# Altium footprint library LED.PcbLib: 19 footprints (part 1 of 2)
Each footprint in its own frame and in the unit in brackets; x right, y up, seen from the top. Pads: shape width x height; smd on the part's side, far side on the other; paste and mask are expansions set on the pad; w line width, h text height; cw(c..) or ccw(c..) is an arc to the next point about the centre after c.
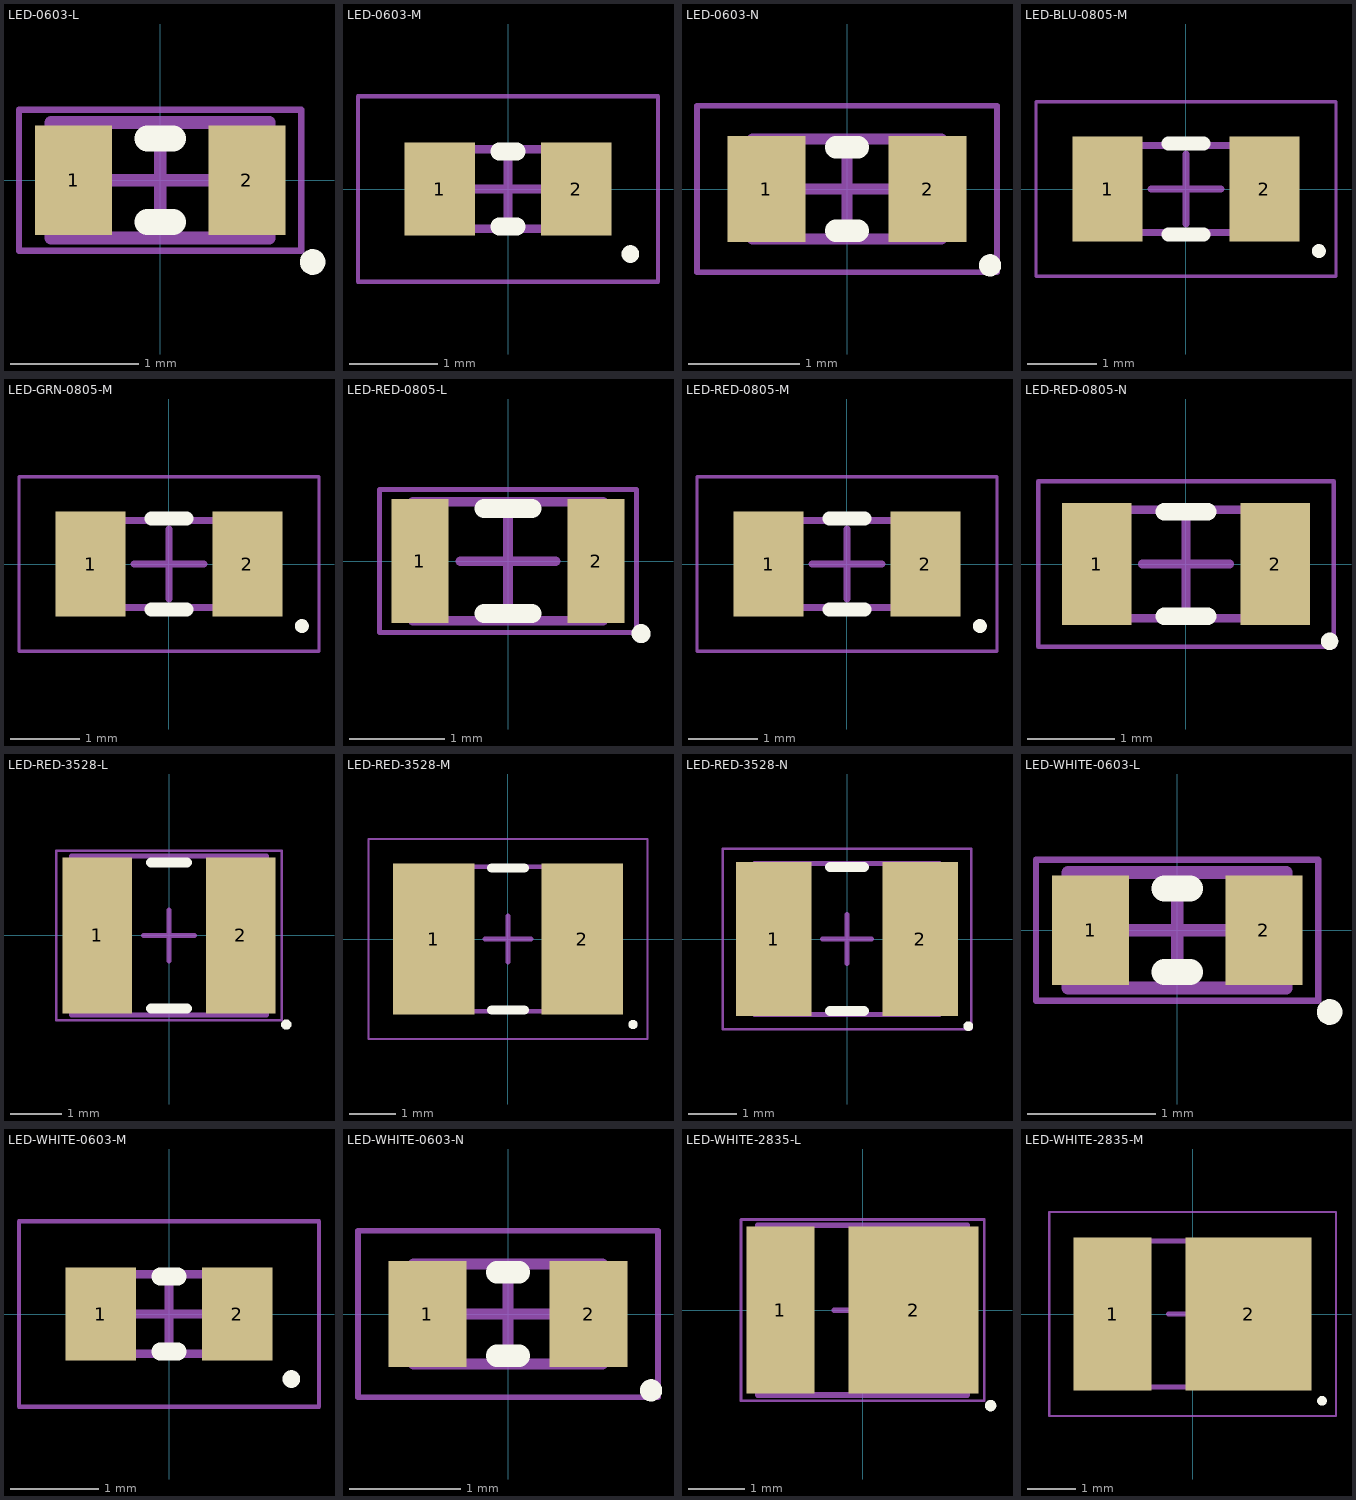
[diagram p0: the footprints below, top view; thin cyan lines are the x and y axes]

## LED-0603-L [mm] "Chip Diode, 2-Leads, Body 1,60x0,80mm, IPC High Density"
height 1
pads (2):
  rect 0.6x0.85 smd: 1(-0.675,0) 2(0.675,0)
Top Overlay:
  circle w0.1: c1.187,-0.637 r0.05
  lines w0.2: -0.1,-0.325 0.1,-0.325 ; -0.1,0.325 0.1,0.325
Mechanical 13:
  lines w0.1: -0.85,-0.45 -0.85,0.45 0.85,0.45 0.85,-0.45 -0.85,-0.45
Mechanical 15:
  lines w0.05: -1.1,-0.55 -1.1,0.55 1.1,0.55 1.1,-0.55 -1.1,-0.55
  lines w0.1: -0.45,0 0.45,0 ; 0,-0.45 0,0.45
3D body "User Library-LED SMD0603.step": height 0.68, standoff 0, extent -0.843,-0.368 0.807,0.357

## LED-0603-M [mm] "Chip Diode, 2-Leads, Body 1,60x0,80mm, IPC Low Density"
height 1
pads (2):
  rect 0.8x1.05 smd: 1(-0.775,0) 2(0.775,0)
Top Overlay:
  circle w0.1: c1.387,-0.737 r0.05
  lines w0.2: -0.1,-0.425 0.1,-0.425 ; -0.1,0.425 0.1,0.425
Mechanical 13:
  lines w0.1: -0.85,-0.45 -0.85,0.45 0.85,0.45 0.85,-0.45 -0.85,-0.45
Mechanical 15:
  lines w0.05: -1.7,-1.05 -1.7,1.05 1.7,1.05 1.7,-1.05 -1.7,-1.05
  lines w0.1: -0.45,0 0.45,0 ; 0,-0.45 0,0.45
3D body "User Library-LED SMD0603.step": height 0.68, standoff 0, extent -0.843,-0.368 0.807,0.357

## LED-0603-N [mm] "Chip Diode, 2-Leads, Body 1,60x0,80mm, IPC Medium Density"
height 1
pads (2):
  rect 0.7x0.95 smd: 1(-0.725,0) 2(0.725,0)
Top Overlay:
  circle w0.1: c1.287,-0.687 r0.05
  lines w0.2: -0.1,-0.375 0.1,-0.375 ; -0.1,0.375 0.1,0.375
Mechanical 13:
  lines w0.1: -0.85,-0.45 -0.85,0.45 0.85,0.45 0.85,-0.45 -0.85,-0.45
Mechanical 15:
  lines w0.05: -1.35,-0.75 -1.35,0.75 1.35,0.75 1.35,-0.75 -1.35,-0.75
  lines w0.1: -0.45,0 0.45,0 ; 0,-0.45 0,0.45
3D body "User Library-LED SMD0603.step": height 0.68, standoff 0, extent -0.843,-0.368 0.807,0.357

## LED-BLU-0805-M [mm] "Chip Diode, 2-Leads, Body 2.00x1.25mm, IPC Low Density"
height 0.8
pads (2):
  rect 1x1.5 smd: 1(-1.125,0) 2(1.125,0)
Top Overlay:
  circle w0.1: c1.905,-0.889 r0.05
  lines w0.2: -0.25,-0.65 0.25,-0.65 ; -0.25,0.65 0.25,0.65
Mechanical 13:
  lines w0.1: -1,-0.625 -1,0.625 1,0.625 1,-0.625 -1,-0.625
Mechanical 15:
  lines w0.05: -2.15,-1.25 -2.15,1.25 2.15,1.25 2.15,-1.25 -2.15,-1.25
  lines w0.1: -0.5,0 0.5,0 ; 0,-0.5 0,0.5
3D body "led-0805-blue.step": height 0.8, standoff -0.31, extent -1,-0.625 1,0.625

## LED-GRN-0805-M [mm] "Chip Diode, 2-Leads, Body 2.00x1.25mm, IPC Low Density"
height 0.8
pads (2):
  rect 1x1.5 smd: 1(-1.125,0) 2(1.125,0)
Top Overlay:
  circle w0.1: c1.905,-0.889 r0.05
  lines w0.2: -0.25,-0.65 0.25,-0.65 ; -0.25,0.65 0.25,0.65
Mechanical 13:
  lines w0.1: -1,-0.625 1,-0.625 1,0.625 -1,0.625 -1,-0.625
Mechanical 15:
  lines w0.05: -2.15,-1.25 2.15,-1.25 2.15,1.25 -2.15,1.25 -2.15,-1.25
  lines w0.1: -0.5,0 0.5,0 ; 0,-0.5 0,0.5
3D body "led-0805-green.step": height 0.8, standoff -0.31, extent -1,-0.625 1,0.625

## LED-RED-0805-L [mm] "Chip Diode, 2-Leads, Body 2.00x1.25mm, IPC High Density"
height 0.8
pads (2):
  rect 0.6x1.3 smd: 1(-0.925,0) 2(0.925,0)
Top Overlay:
  circle w0.1: c1.397,-0.762 r0.05
  lines w0.2: -0.25,-0.55 0.25,-0.55 ; -0.25,0.55 0.25,0.55
Mechanical 13:
  lines w0.1: -1,-0.625 1,-0.625 1,0.625 -1,0.625 -1,-0.625
Mechanical 15:
  lines w0.05: -1.35,-0.75 1.35,-0.75 1.35,0.75 -1.35,0.75 -1.35,-0.75
  lines w0.1: -0.5,0 0.5,0 ; 0,-0.5 0,0.5
3D body "led-0805-red.step": height 1.1, standoff -0.01, extent -1,-0.625 1,0.625

## LED-RED-0805-M [mm] "Chip Diode, 2-Leads, Body 2.00x1.25mm, IPC Low Density"
height 0.8
pads (2):
  rect 1x1.5 smd: 1(-1.125,0) 2(1.125,0)
Top Overlay:
  circle w0.1: c1.905,-0.889 r0.05
  lines w0.2: -0.25,-0.65 0.25,-0.65 ; -0.25,0.65 0.25,0.65
Mechanical 13:
  lines w0.1: -1,-0.625 -1,0.625 1,0.625 1,-0.625 -1,-0.625
Mechanical 15:
  lines w0.05: -2.15,-1.25 -2.15,1.25 2.15,1.25 2.15,-1.25 -2.15,-1.25
  lines w0.1: -0.5,0 0.5,0 ; 0,-0.5 0,0.5
3D body "led-0805-red.step": height 1.1, standoff -0.01, extent -1,-0.625 1,0.625

## LED-RED-0805-N [mm] "Chip Diode, 2-Leads, Body 2.00x1.25mm, IPC Medium Density"
height 0.8
pads (2):
  rect 0.8x1.4 smd: 1(-1.025,0) 2(1.025,0)
Top Overlay:
  circle w0.1: c1.651,-0.889 r0.05
  lines w0.2: -0.25,-0.6 0.25,-0.6 ; -0.25,0.6 0.25,0.6
Mechanical 13:
  lines w0.1: -1,-0.625 1,-0.625 1,0.625 -1,0.625 -1,-0.625
Mechanical 15:
  lines w0.05: -1.7,-0.95 1.7,-0.95 1.7,0.95 -1.7,0.95 -1.7,-0.95
  lines w0.1: -0.5,0 0.5,0 ; 0,-0.5 0,0.5
3D body "led-0805-red.step": height 1.1, standoff -0.01, extent -1,-0.625 1,0.625

## LED-RED-3528-L [mm] "Chip Diode, 2-Leads, Body 3,65x2,95mm, IPC High Density"
height 1.9
pads (2):
  rect 1.35x3.05 smd: 1(-1.4,0) 2(1.4,0)
Top Overlay:
  circle w0.1: c2.287,-1.737 r0.05
  lines w0.2: -0.35,-1.425 0.35,-1.425 ; -0.35,1.425 0.35,1.425
Mechanical 13:
  lines w0.1: -1.9,-1.55 -1.9,1.55 1.9,1.55 1.9,-1.55 -1.9,-1.55
Mechanical 15:
  lines w0.05: -2.2,-1.65 -2.2,1.65 2.2,1.65 2.2,-1.65 -2.2,-1.65
  lines w0.1: -0.5,0 0.5,0 ; 0,-0.5 0,0.5
3D body "LED-RED-3528.step": height 1.6, standoff -0.2, extent -1.75,-1.4 1.75,1.4

## LED-RED-3528-M [mm] "Chip Diode, 2-Leads, Body 3,65x2,95mm, IPC Low Density"
height 1.9
pads (2):
  rect 1.75x3.25 smd: 1(-1.6,0) 2(1.6,0)
Top Overlay:
  circle w0.1: c2.687,-1.837 r0.05
  lines w0.2: -0.35,-1.525 0.35,-1.525 ; -0.35,1.525 0.35,1.525
Mechanical 13:
  lines w0.1: -1.9,-1.55 1.9,-1.55 1.9,1.55 -1.9,1.55 -1.9,-1.55
Mechanical 15:
  lines w0.05: -3,-2.15 3,-2.15 3,2.15 -3,2.15 -3,-2.15
  lines w0.1: -0.5,0 0.5,0 ; 0,-0.5 0,0.5
3D body "LED-RED-3528.step": height 1.6, standoff -0.2, extent -1.75,-1.4 1.75,1.4

## LED-RED-3528-N [mm] "Chip Diode, 2-Leads, Body 3,65x2,95mm, IPC Medium Density"
height 1.9
pads (2):
  rect 1.55x3.15 smd: 1(-1.5,0) 2(1.5,0)
Top Overlay:
  circle w0.1: c2.487,-1.787 r0.05
  lines w0.2: -0.35,-1.475 0.35,-1.475 ; -0.35,1.475 0.35,1.475
Mechanical 13:
  lines w0.1: -1.9,-1.55 1.9,-1.55 1.9,1.55 -1.9,1.55 -1.9,-1.55
Mechanical 15:
  lines w0.05: -2.55,-1.85 2.55,-1.85 2.55,1.85 -2.55,1.85 -2.55,-1.85
  lines w0.1: -0.5,0 0.5,0 ; 0,-0.5 0,0.5
3D body "LED-RED-3528.step": height 1.6, standoff -0.2, extent -1.75,-1.4 1.75,1.4

## LED-WHITE-0603-L [mm] "Chip Diode, 2-Leads, Body 1,60x0,80mm, IPC High Density"
height 1
pads (2):
  rect 0.6x0.85 smd: 1(-0.675,0) 2(0.675,0)
Top Overlay:
  circle w0.1: c1.187,-0.637 r0.05
  lines w0.2: -0.1,-0.325 0.1,-0.325 ; -0.1,0.325 0.1,0.325
Mechanical 13:
  lines w0.1: -0.85,-0.45 0.85,-0.45 0.85,0.45 -0.85,0.45 -0.85,-0.45
Mechanical 15:
  lines w0.05: -1.1,-0.55 1.1,-0.55 1.1,0.55 -1.1,0.55 -1.1,-0.55
  lines w0.1: -0.45,0 0.45,0 ; 0,-0.45 0,0.45
3D body "User Library-LED SMD0603.step": height 0.68, standoff 0, extent -0.843,-0.368 0.807,0.357

## LED-WHITE-0603-M [mm] "Chip Diode, 2-Leads, Body 1,60x0,80mm, IPC Low Density"
height 1
pads (2):
  rect 0.8x1.05 smd: 1(-0.775,0) 2(0.775,0)
Top Overlay:
  circle w0.1: c1.387,-0.737 r0.05
  lines w0.2: -0.1,-0.425 0.1,-0.425 ; -0.1,0.425 0.1,0.425
Mechanical 13:
  lines w0.1: -0.85,-0.45 -0.85,0.45 0.85,0.45 0.85,-0.45 -0.85,-0.45
Mechanical 15:
  lines w0.05: -1.7,-1.05 -1.7,1.05 1.7,1.05 1.7,-1.05 -1.7,-1.05
  lines w0.1: -0.45,0 0.45,0 ; 0,-0.45 0,0.45
3D body "User Library-LED SMD0603.step": height 0.68, standoff 0, extent -0.843,-0.368 0.807,0.357

## LED-WHITE-0603-N [mm] "Chip Diode, 2-Leads, Body 1,60x0,80mm, IPC Medium Density"
height 1
pads (2):
  rect 0.7x0.95 smd: 1(-0.725,0) 2(0.725,0)
Top Overlay:
  circle w0.1: c1.287,-0.687 r0.05
  lines w0.2: -0.1,-0.375 0.1,-0.375 ; -0.1,0.375 0.1,0.375
Mechanical 13:
  lines w0.1: -0.85,-0.45 -0.85,0.45 0.85,0.45 0.85,-0.45 -0.85,-0.45
Mechanical 15:
  lines w0.05: -1.35,-0.75 -1.35,0.75 1.35,0.75 1.35,-0.75 -1.35,-0.75
  lines w0.1: -0.45,0 0.45,0 ; 0,-0.45 0,0.45
3D body "User Library-LED SMD0603.step": height 0.68, standoff 0, extent -0.843,-0.368 0.807,0.357

## LED-WHITE-2835-L [mm] "Chip Diode, 2-Leads, Body 3,60x2,90mm, IPC High Density"
height 0.8
pads (2):
  rect 1.2x2.95 smd: 1(-1.45,0)
  rect 2.3x2.95 smd: 2(0.9,0)
Top Overlay:
  circle w0.1: c2.262,-1.687 r0.05
Mechanical 13:
  lines w0.1: -1.85,-1.5 1.85,-1.5 1.85,1.5 -1.85,1.5 -1.85,-1.5
Mechanical 15:
  lines w0.05: -2.15,-1.6 2.15,-1.6 2.15,1.6 -2.15,1.6 -2.15,-1.6
  lines w0.1: -0.5,0 0.5,0 ; 0,-0.5 0,0.5
3D body "User Library-LED_2835_Samsung_SPMWH1228.step": height 0.7, standoff 0, extent -1.748,-1.401 1.747,1.399

## LED-WHITE-2835-M [mm] "Chip Diode, 2-Leads, Body 3,60x2,90mm, IPC Low Density"
height 0.8
pads (2):
  rect 1.6x3.15 smd: 1(-1.65,0)
  rect 2.6x3.15 smd: 2(1.15,0)
Top Overlay:
  circle w0.1: c2.662,-1.787 r0.05
Mechanical 13:
  lines w0.1: -1.85,-1.5 1.85,-1.5 1.85,1.5 -1.85,1.5 -1.85,-1.5
Mechanical 15:
  lines w0.05: -2.95,-2.1 2.95,-2.1 2.95,2.1 -2.95,2.1 -2.95,-2.1
  lines w0.1: -0.5,0 0.5,0 ; 0,-0.5 0,0.5
3D body "User Library-LED_2835_Samsung_SPMWH1228.step": height 0.7, standoff 0, extent -1.748,-1.4 1.747,1.4